# Altium footprint library PcbLib1.PcbLib: 3 footprints
Each footprint in its own frame and in the unit in brackets; x right, y up, seen from the top. Pads: shape width x height; smd on the part's side, far side on the other; paste and mask are expansions set on the pad; w line width, h text height; cw(c..) or ccw(c..) is an arc to the next point about the centre after c.
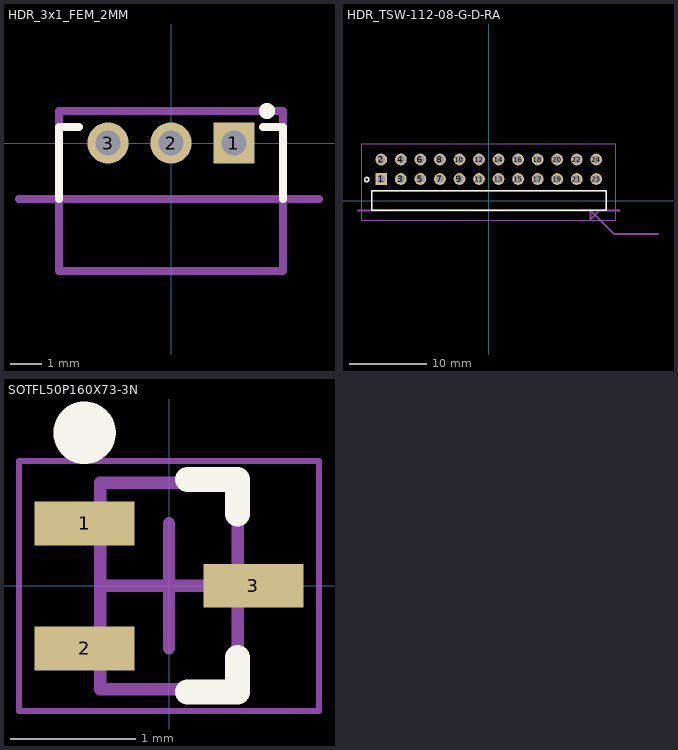
[diagram p0: the footprints below, top view; thin cyan lines are the x and y axes]

## HDR_3x1_FEM_2MM [mm] "A 3-pin header w. 2mm pitch, female"
height 2.8
pads (3):
  rect 1.3x1.3 hole 0.8: 1(2,0)
  round 1.3 hole 0.8: 2(0,0) 3(-2,0)
Top Overlay:
  circle w0.254: c3.048,1.016 r0.127
  lines w0.254: -3.556,-1.778 -3.556,0.508 -2.921,0.508 ; 2.921,0.508 3.556,0.508 3.556,-1.778
Assembly Notes:
  lines w0.254: -4.826,-1.778 4.699,-1.778
  text "Facing Away from Board" at -2.794,-4.572 h0.25
  text "Board Edge" at 5.08,-1.905 h0.25
Top Courtyard:
  lines w0.1: -0.5,0 0.5,0 ; 0,-0.5 0,0.5
  lines w0.254: -3.556,-4.064 3.556,-4.064 3.556,1.016 -3.556,1.016 -3.556,-4.064
3D body: height 0.85, standoff 0.02, extent -2,0 -2,0
3D body "female_header_a-bl200-ea-g03d.stp": height 2.78, standoff -2.68, extent -3.35,-4.046 3.35,0.254

## HDR_TSW-112-08-G-D-RA [mm] "CONN, MALE, RIGHT ANGLE, 2.54 MM PITCH, 24-PIN, TH, ROHS"
height 5.56
pads (24):
  rect 1.528x1.528 / inner round 1.528 / far side rect 1.528x1.528 hole 1.02: 1(-13.97,2.79)
  round 1.528 hole 1.02: 2(-13.97,5.33) 3(-11.43,2.79) 4(-11.43,5.33) 5(-8.89,2.79) 6(-8.89,5.33) 7(-6.35,2.79) 8(-6.35,5.33) 9(-3.81,2.79) 10(-3.81,5.33) 11(-1.27,2.79) 12(-1.27,5.33) 13(1.27,2.79) 14(1.27,5.33) 15(3.81,2.79) 16(3.81,5.33) 17(6.35,2.79) 18(6.35,5.33) 19(8.89,2.79) 20(8.89,5.33) 21(11.43,2.79) 22(11.43,5.33) 23(13.97,2.79) 24(13.97,5.33)
Top Overlay:
  circle w0.178: c-15.875,2.723 r0.279
  lines w0.178: -15.24,-1.27 15.24,-1.27 15.24,1.27 -15.24,1.27 -15.24,-1.27
Bottom Overlay:
  lines w0.178: -15.24,-0.5 -15.24,0.5 ; -14.859,-1.27 -12.192,-1.27 ; -14.732,1.27 -12.319,1.27 ; -10.922,1.27 -8.255,1.27 ; -10.795,-1.27 -8.128,-1.27 ; -6.604,-1.27 -3.937,-1.27 ; -6.604,1.27 -3.937,1.27 ; -2.54,1.27 0.127,1.27 ; -2.286,-1.27 0.381,-1.27 ; 1.524,-1.27 4.191,-1.27 ; 1.524,1.27 4.191,1.27 ; 5.461,-1.27 8.128,-1.27 ; 5.461,1.27 8.128,1.27 ; 9.271,-1.27 11.938,-1.27 ; 9.271,1.27 11.938,1.27 ; 13.081,1.27 14.478,1.27 ; 13.335,-1.27 14.605,-1.27 ; 15.24,-0.5 15.24,0.5
Mechanical 5:
  lines w0.127: -15.24,-1.27 -15.24,1.27 15.24,1.27 15.24,-1.27 -15.24,-1.27
Top Courtyard:
  lines w0.05: -16.51,-2.54 -16.51,7.364 16.51,7.364 16.51,-2.54 -16.51,-2.54
Courtyard Bottom:
  lines w0.254: -17,-1.278 17,-1.278 ; 14.376,-1.321 13.233,-2.464 13.233,-1.321 16.281,-4.369 21.996,-4.369
Mechanical 17:
  text "PCB EDGE" at 16.367,-3.54 h1.52
  text "LEAD LENGTH: 2.29MM" at -9.906,6.711 h1
3D body "TSW-112-08-G-D-RA.stp": height 5.56, standoff -2.29, extent -15.24,-7.112 15.24,5.652

## SOTFL50P160X73-3N [mm] "SOTFL, 3-Leads, Body 1.60x1.60mm, Pitch 0.50mm, IPC Medium Density"
height 0.73
pads (3):
  rect 0.8x0.35 smd: 1(-0.675,0.5) 2(-0.675,-0.5) 3(0.675,0)
Top Overlay:
  circle w0.25: c-0.675,1.225 r0.125
  lines w0.2: 0.15,-0.85 0.55,-0.85 0.55,-0.575 ; 0.15,0.85 0.55,0.85 0.55,0.575
Top Outline, 3D Body:
  lines w0.1: -0.55,-0.825 -0.55,0.825 0.55,0.825 0.55,-0.825 -0.55,-0.825
Top Courtyard:
  lines w0.05: -1.2,-1 -1.2,1 1.2,1 1.2,-1 -1.2,-1
  lines w0.1: -0.5,0 0.5,0 ; 0,-0.5 0,0.5
3D body "SOTFL50P160X73-3N.step": height 0.73, standoff 0, extent -0.8,-0.823 0.8,0.823